# Altium footprint library SIM800L_shield.PcbLib: 1 footprints
Each footprint in its own frame and in the unit in brackets; x right, y up, seen from the top. Pads: shape width x height; smd on the part's side, far side on the other; paste and mask are expansions set on the pad; w line width, h text height; cw(c..) or ccw(c..) is an arc to the next point about the centre after c.
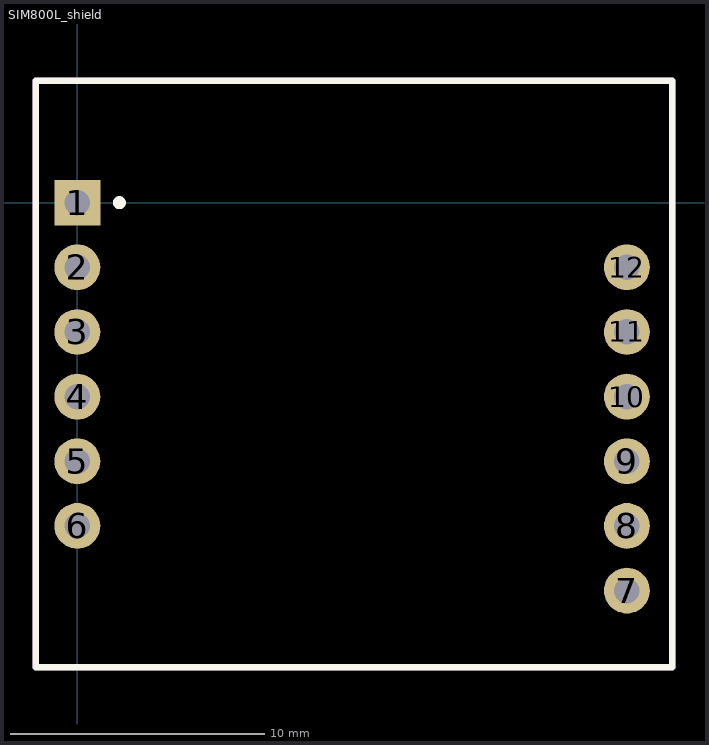
[diagram p0: the footprint, top view; thin cyan lines are the x and y axes]

## SIM800L_shield [mm]
pads (12):
  rect 1.8x1.8 hole 1: 1(0,0)
  round 1.8 hole 1: 2(0,-2.54) 3(0,-5.08) 4(0,-7.62) 5(0,-10.16) 6(0,-12.7) 7(21.59,-15.24) 8(21.59,-12.7) 9(21.59,-10.16) 10(21.59,-7.62) 11(21.59,-5.08) 12(21.59,-2.54)
Top Overlay:
  circle w0.254: c1.651,0 r0.127
  lines w0.254: -1.632,-18.246 -1.632,4.784 23.368,4.784 23.368,-18.246 -1.632,-18.246
TopAssy:
  lines w0.254: -1.632,-18.246 23.368,-18.246 23.368,4.784 -1.632,4.784 -1.632,-18.246
3D body "SIM800L.STEP": height 6.21, standoff -5.83, extent -1.632,-18.246 23.368,4.784